# EAGLE library part SM_0.1_7POS_HEADER (library scono)
7 Position, 0.1" pitch, surface mount header
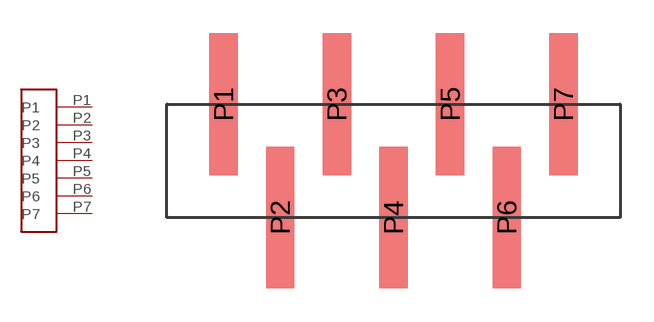
[diagram p19: symbol with the pads of SM_0.1_7POS_HEADER; footprint SM_0.1_7POS_HEADER]

Designator prefix -

## SM_0.1_7POS_HEADER  [SM_0.1_7POS_HEADER]
P1  P1
P2  P2
P3  P3
P4  P4
P5  P5
P6  P6
P7  P7

## Footprint SM_0.1_7POS_HEADER (pad centres in mm)
smd 1.27 x 6.35: P1 0,2.54; P2 2.54,-2.54; P3 5.08,2.54; P4 7.62,-2.54; P5 10.16,2.54; P6 12.7,-2.54; P7 15.24,2.54